# Altium schematic symbol library 1uF 0603 CAP.SchLib: 1 symbol
Pins are listed as number, name and electrical type; pins without a type are passive.

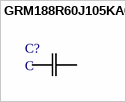
[diagram p0: symbol GRM188R60J105KA0]

## GRM188R60J105KA0
designator C?, comment C
Imported; Manufacturer Part Number: GRM188R60J105KA01D; Vendor: Murata; Built_By: EMA_UL_Team; Type: DEV; Value: 1u; C: Copyright (C) 2015 Accelerated Designs. All rights reserved; RefDes: RefDes
footprint CAP_GRM_188
footprint CAP_GRM_188
footprint CAP_GRM_188-M
pins: 1, 2